# Altium schematic symbol library Teensy_4.1.SchLib: 1 symbol
Pins are listed as number, name and electrical type; pins without a type are passive.

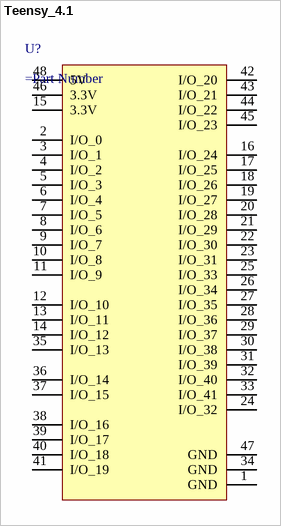
[diagram p0: symbol Teensy_4.1]

## Teensy_4.1
designator U?
=Description
pins: 1 GND (power), 2 I/O_0, 3 I/O_1, 4 I/O_2, 5 I/O_3, 6 I/O_4, 7 I/O_5, 8 I/O_6, 9 I/O_7, 10 I/O_8, 11 I/O_9, 12 I/O_10, 13 I/O_11, 14 I/O_12, 15 3.3V (power), 16 I/O_24, 17 I/O_25, 18 I/O_26, 19 I/O_27, 20 I/O_28, 21 I/O_29, 22 I/O_30, 23 I/O_31, 24 I/O_32, 25 I/O_33, 26 I/O_34, 27 I/O_35, 28 I/O_36, 29 I/O_37, 30 I/O_38, 31 I/O_39, 32 I/O_40, 33 I/O_41, 34 GND (power), 35 I/O_13, 36 I/O_14, 37 I/O_15, 38 I/O_16, 39 I/O_17, 40 I/O_18, 41 I/O_19, 42 I/O_20, 43 I/O_21, 44 I/O_22, 45 I/O_23, 46 3.3V (power), 47 GND, 48 5V